# Altium footprint library axsem_osc_v1-3.PCBLIB: 5 footprints
Each footprint in its own frame and in the unit in brackets; x right, y up, seen from the top. Pads: shape width x height; smd on the part's side, far side on the other; paste and mask are expansions set on the pad; w line width, h text height; cw(c..) or ccw(c..) is an arc to the next point about the centre after c.
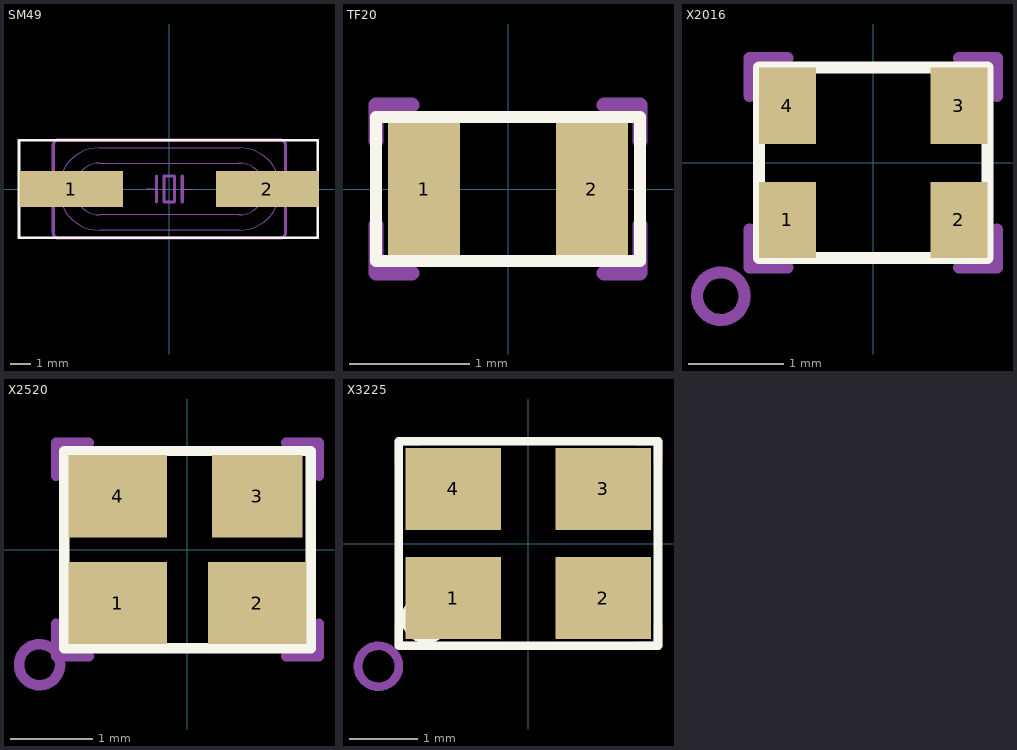
[diagram p0: the footprints below, top view; thin cyan lines are the x and y axes]

## SM49 [mil]
pads (2):
  rect 200x70 smd: 1(-190,0) 2(190,0)
Top Overlay:
  lines w5: -291.34,-94.49 287.4,-94.49 287.4,94.49 -291.34,94.49 -291.34,-94.49
Mechanical 16:
  lines w2: -45,0 -25,0 ; 25,0 45,0 ; -201.15,-45 ccw(c-135,0) -135,-80 135,-80 ccw(c135,0) 201.14,-45 ccw(c135,0) 201.15,45 ccw(c135,0) 135,80 -135,80 ccw(c-135,-0.01) -201.15,45 ccw(c-135,0) -201.15,-45 ; -156.8,-45 ccw(c-135,0.01) -135,-50 135,-50 ccw(c135,0.01) 156.8,-45 ccw(c135,0) 156.8,45 ccw(c135,-0.01) 135,50 -135,50 ccw(c-135,-0.01) -156.8,45 ccw(c-135,0) -156.8,-45
  lines w6: -225,-15 -255,-15 -255,15 -225,15 ; -25,-25 -25,0 -25,25 ; 25,-25 25,0 25,25 ; 225,-15 225,15 ; 225,-15 225,-45 225,-85 cw(c215,-85) 215,-95 -215,-95 cw(c-215,-85) -225,-85 -225,-45 -225,45 -225,85 cw(c-215,85) -215,95 215,95 cw(c215,85) 225,85 225,45 225,15 ; 225,-15 255,-15 255,15 225,15 ; -10,-25 -10,25 10,25 10,-25 -10,-25

## TF20 [mm]
pads (2):
  rect 0.6x1.1 smd: 1(-0.7,0) 2(0.7,0)
Top Overlay:
  lines w0.1: -1.1,-0.6 -1.1,0.6 1.1,0.6 1.1,-0.6 -1.1,-0.6
Mechanical 16:
  lines w0.127: -1.1,-0.3 -1.1,-0.7 -0.8,-0.7 ; -1.1,0.4 -1.1,0.7 -0.8,0.7 ; 0.8,-0.7 1.1,-0.7 1.1,-0.3 ; 0.8,0.7 1.1,0.7 1.1,0.4

## X2016 [mil]
pads (4):
  rect 23.62x31.5 smd: 1(-35.43,-23.62) 2(35.43,-23.62) 3(35.43,23.62) 4(-35.43,23.62)
Top Overlay:
  circle w5: c-35.43,-23.62 r7.87
  lines w5: -47.24,-39.37 47.24,-39.37 47.24,39.37 -47.24,39.37 -47.24,-39.37
Mechanical 16:
  circle w5: c-62.99,-55.12 r9.84
  lines w5: -51.18,-27.56 -51.18,-43.31 -35.43,-43.31 ; -51.18,27.56 -51.18,43.31 -35.43,43.31 ; 35.43,-43.31 51.18,-43.31 51.18,-27.56 ; 35.43,43.31 51.18,43.31 51.18,27.56

## X2520 [mm]
pads (4):
  rect 1.2x1 smd: 1(-0.85,-0.65) 2(0.85,-0.65) 4(-0.85,0.65)
  rect 1.1x1 smd: 3(0.85,0.65)
Top Overlay:
  circle w0.127: c-1.2,-0.9 r0.2
  lines w0.127: -1.5,-1.2 1.5,-1.2 1.5,1.2 -1.5,1.2 -1.5,-1.2
Mechanical 16:
  circle w0.127: c-1.8,-1.4 r0.25
  lines w0.127: -1.6,-0.9 -1.6,-1.3 -1.2,-1.3 ; -1.6,0.9 -1.6,1.3 -1.2,1.3 ; 1.2,-1.3 1.6,-1.3 1.6,-0.9 ; 1.2,1.3 1.6,1.3 1.6,0.9

## X3225 [mil]
pads (4):
  rect 55.12x47.24 smd: 1(-43.31,-31.5) 2(43.31,-31.5) 3(43.31,31.5) 4(-43.31,31.5)
Top Overlay:
  circle w5: c-59.06,-43.31 r11.81
  lines w5: -74.8,-59.06 74.8,-59.06 74.8,59.06 -74.8,59.06 -74.8,-59.06
Mechanical 16:
  circle w5: c-86.61,-70.87 r11.81
  lines w5: -74.8,-47.24 -74.8,-59.06 -62.99,-59.06 ; -74.8,47.24 -74.8,59.06 -62.99,59.06 ; 62.99,-59.06 74.8,-59.06 74.8,-47.24 ; 62.99,59.06 74.8,59.06 74.8,47.24